# EAGLE library part CDSOT236-T15 (library IC & Transistor)
TVS Diode Array Created by: Wai Weng
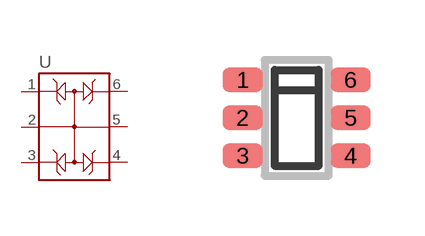
[diagram p67: symbol with the pads of SOT-23-6; footprint SOT-23-6]

Designator prefix U

## CDSOT236-T15 (DESC: S TVS Diode Array CDSOT236-T15 SOT236; MF: BOURNS; MPN: CDSOT236-T15)  [SOT-23-6]
1  1
2  2
3  3
4  4
5  5
6  6

## Footprint SOT-23-6 (pad centres in mm)
Small Outline Transistor - 6 Pins (SOT-23-6). Size: 2.9 x 1.6mm Modified by: Wai Weng
smd 1 x 0.6: 1 -1.35,0.95; 2 -1.35,0; 3 -1.35,-0.95; 4 1.35,-0.95; 5 1.35,0; 6 1.35,0.95